# Altium schematic symbol library TL074CN.SchLib: 1 symbol
Pins are listed as number, name and electrical type; pins without a type are passive.

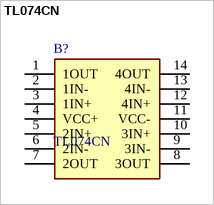
[diagram p0: symbol TL074CN]

## TL074CN
designator B?
Quad Low-Noise JFET-Input General-Purpose Operational Amplifier; Manufacturer_Name: Texas Instruments; Geometry.Height: 5.08mm; Mouser Part Number: 595-TL074CN; Mouser Price/Stock: https://www.mouser.co.uk/ProductDetail/Texas-Instruments/TL074CN?qs=AMJt07B76uv7dLYnj7iLiQ%3D%3D; Manufacturer_Part_Number: TL074CN; Datasheet Link: *
footprint DIP794W53P254L1930H508Q14N
pins: 1 1OUT, 2 1IN-, 3 1IN+, 4 VCC+, 5 2IN+, 6 2IN-, 7 2OUT, 8 3OUT, 9 3IN-, 10 3IN+, 11 VCC-, 12 4IN+, 13 4IN-, 14 4OUT